# Altium schematic symbol library SCH - POWER - LINEAR VREG - TI TPS75100DSK.SchLib: 1 symbol
Pins are listed as number, name and electrical type; pins without a type are passive.

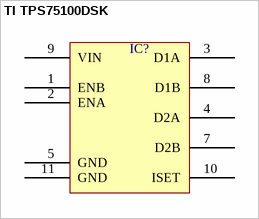
[diagram p0: symbol TI TPS75100DSK]

## TI TPS75100DSK
designator IC?  (value not drawn)
pins: 1 ENB, 2 ENA, 3 D1A, 4 D2A, 5 GND, 7 D2B, 8 D1B, 9 VIN, 10 ISET, 11 GND